# EAGLE library part AWM657TX (library Custom_old)
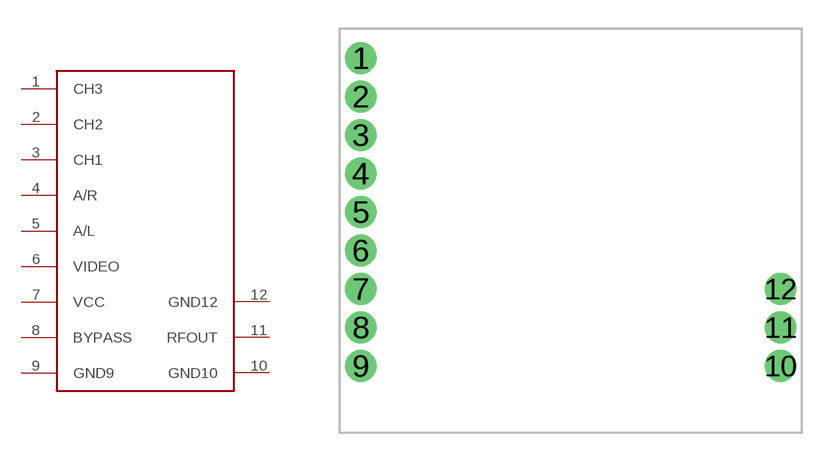
[diagram p14: symbol with the pads of AWM657TX; footprint AWM657TX]

Designator prefix -

## AWM657TX  [AWM657TX]
1  CH3
2  CH2
3  CH1
4  A/R
5  A/L
6  VIDEO
7  VCC
8  BYPASS
9  GND9
10  GND10
11  RFOUT
12  GND12

## Footprint AWM657TX (pad centres in mm)
drill 1.1: 1 1.1,-1.52; 2 1.1,-3.52; 3 1.1,-5.52; 4 1.1,-7.52; 5 1.1,-9.52; 6 1.1,-11.52; 7 1.1,-13.52; 8 1.1,-15.52; 9 1.1,-17.52; 10 22.9,-17.52; 11 22.9,-15.52; 12 22.9,-13.52